# Altium schematic symbol library 5575BB044.SchLib: 1 symbol
Pins are listed as number, name and electrical type; pins without a type are passive.

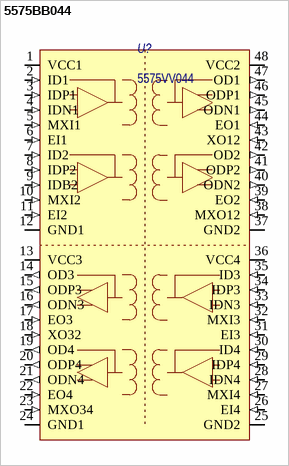
[diagram p0: symbol 5575BB044]

## 5575BB044
designator U?, comment 5575VV044
Микросхема гальванической развязки цифровых сигналов; Наименование: 5575BB044; Потребление, Вт: 0.165; Назначение: Микросхема гальванической развязки цифровых сигналов; ComponentLink1Description: DataSheet; ComponentLink1URL: http://www.asic.ru/images/stories/bmk/5575/5575BB_Opisanie.pdf
footprint MK 4159.48-1 (CFP, 48-Leads, Body 13,00x14,00mm (max), Pitch 0,50mm, IPC Medium Density)
pins: 1 VCC1 (power), 2 ID1 (in), 3 IDP1 (in), 4 IDN1 (in), 5 MXI1 (in), 6 EI1 (in), 7 ID2 (in), 8 IDP2 (in), 9 IDB2 (in), 10 MXI2 (in), 11 EI2 (in), 12 GND1 (power), 13 VCC3 (power), 14 OD3 (out), 15 ODP3 (out), 16 ODN3 (out), 17 EO3 (in), 18 XO32 (in), 19 OD4 (out), 20 ODP4 (out), 21 ODN4 (out), 22 EO4 (in), 23 MXO34 (in), 24 GND1 (power), 25 GND2 (power), 26 EI4 (in), 27 MXI4 (in), 28 IDN4 (in), 29 IDP4 (in), 30 ID4 (in), 31 EI3 (in), 32 MXI3 (in), 33 IDN3 (in), 34 IDP3 (in), 35 ID3 (in), 36 VCC4 (power), 37 GND2 (power), 38 MXO12 (in), 39 EO2 (in), 40 ODN2 (out), 41 ODP2 (out), 42 OD2 (out), 43 XO12 (in), 44 EO1 (in), 45 ODN1 (out), 46 ODP1 (out), 47 OD1 (out), 48 VCC2 (power)